# Altium footprint library IC.PcbLib: 83 footprints (part 2 of 6)
Each footprint in its own frame and in the unit in brackets; x right, y up, seen from the top. Pads: shape width x height; smd on the part's side, far side on the other; paste and mask are expansions set on the pad; w line width, h text height; cw(c..) or ccw(c..) is an arc to the next point about the centre after c.
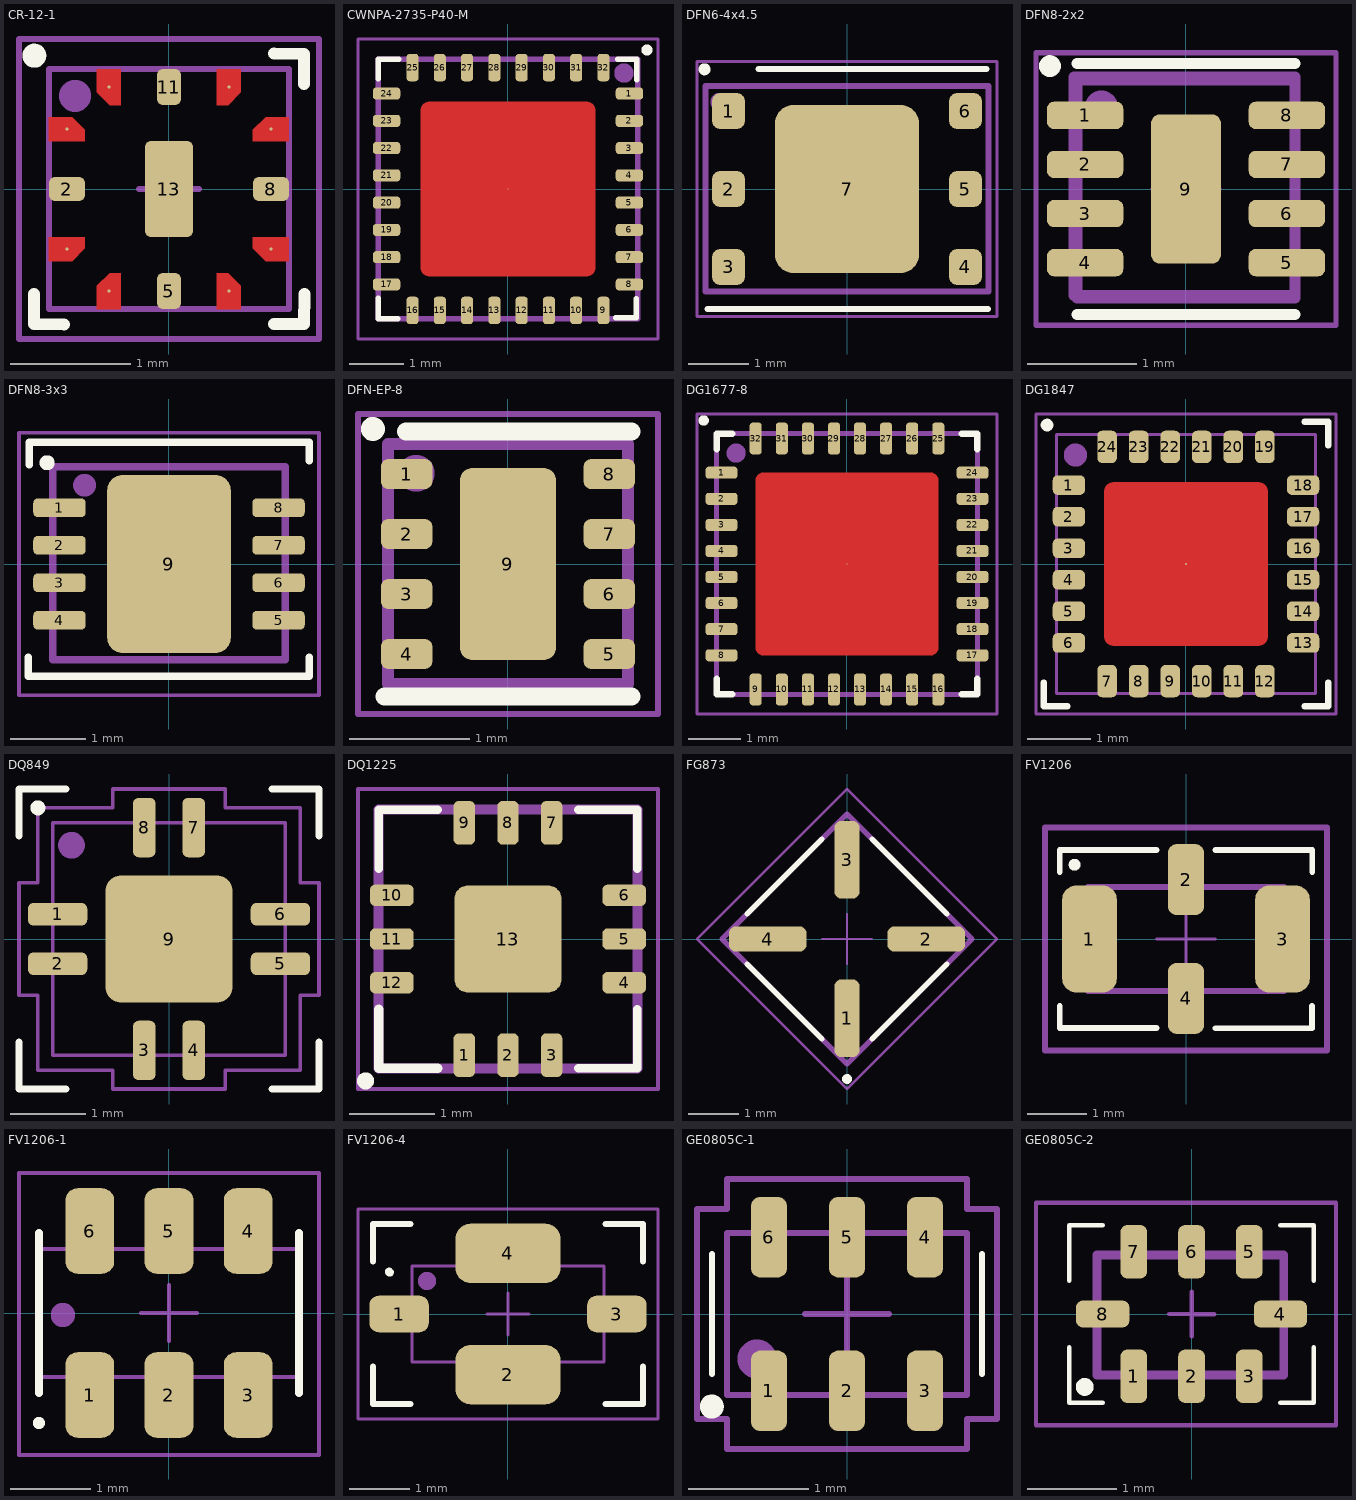
[diagram p1: the footprints below, top view; thin cyan lines are the x and y axes]

## CR-12-1 [mm]
pads (13):
  round 0.025 smd: 1(-0.85,0.5) 3(-0.85,-0.5) 4(-0.5,-0.85) 6(0.5,-0.85) 7(0.85,-0.5) 9(0.85,0.5) 10(0.5,0.85) 12(-0.5,0.85)
  rrect50% 0.3x0.2 smd: 2(-0.85,0) 8(0.85,0)
  rrect50% 0.2x0.3 smd: 5(0,-0.85) 11(0,0.85)
  rrect25% 0.4x0.8 smd: 13(0,0)
Top Layer:
  region: -0.492,0.7 -0.6,0.808 -0.6,1 -0.4,1 -0.4,0.7
  region: 0.7,0.492 0.808,0.6 1,0.6 1,0.4 0.7,0.4
  region: 0.7,-0.492 0.808,-0.6 1,-0.6 1,-0.4 0.7,-0.4
  region: 0.492,-0.7 0.6,-0.808 0.6,-1 0.4,-1 0.4,-0.7
  region: -0.492,-0.7 -0.6,-0.808 -0.6,-1 -0.4,-1 -0.4,-0.7
  region: -0.7,-0.492 -0.808,-0.6 -1,-0.6 -1,-0.4 -0.7,-0.4
  region: -0.7,0.492 -0.808,0.6 -1,0.6 -1,0.4 -0.7,0.4
  region: 0.492,0.7 0.6,0.808 0.6,1 0.4,1 0.4,0.7
Top Overlay:
  circle w0.1: c-1.123,1.111 r0.05
  lines w0.1: -1.125,-0.875 -1.125,-1.125 -0.874,-1.128 ; 0.874,1.128 1.125,1.125 1.125,0.875 ; 0.875,-1.125 1.125,-1.125 1.128,-0.874
Top Assembly:
  circle w0.254: c-0.782,0.777 r0.006
  lines w0.05: -1,-1 1,-1 1,1 -1,1 -1,-1
  text ".Designator" at -1.126,-0.113 h0.5
Top Courtyard:
  lines w0.05: -0.25,0 0,0 ; 0,-0.25 0,0 ; 0,0.25 0,0 ; 0.25,0 0,0 ; -1.25,-1.25 1.25,-1.25 1.25,1.25 -1.25,1.25 -1.25,-1.25
3D body "ADRF5238BCRZN.stp": height 0.62, standoff -0.01, extent -1,-1 1,1

## CWNPA-2735-P40-M [mm]
pads (33):
  rrect50% 0.5x0.22 smd: 1(2.225,1.75) 2(2.225,1.25) 3(2.225,0.75) 4(2.225,0.25) 5(2.225,-0.25) 6(2.225,-0.75) 7(2.225,-1.25) 8(2.225,-1.75) 17(-2.225,-1.75) 18(-2.225,-1.25) 19(-2.225,-0.75) 20(-2.225,-0.25) 21(-2.225,0.25) 22(-2.225,0.75) 23(-2.225,1.25) 24(-2.225,1.75)
  rrect50% 0.22x0.5 smd: 9(1.75,-2.225) 10(1.25,-2.225) 11(0.75,-2.225) 12(0.25,-2.225) 13(-0.25,-2.225) 14(-0.75,-2.225) 15(-1.25,-2.225) 16(-1.75,-2.225) 25(-1.75,2.225) 26(-1.25,2.225) 27(-0.75,2.225) 28(-0.25,2.225) 29(0.25,2.225) 30(0.75,2.225) 31(1.25,2.225) 32(1.75,2.225)
  round 0.025 smd: 33(0,0)
Top Layer:
  region: -1.6,-1.45 -1.6,1.45 -1.6,1.465 -1.594,1.494 -1.583,1.521 -1.567,1.546 -1.546,1.567 -1.521,1.583 -1.494,1.594 -1.465,1.6 -1.45,1.6 1.45,1.6 1.465,1.6 1.494,1.594 1.521,1.583 1.546,1.567 1.567,1.546 1.583,1.521 1.594,1.494 1.6,1.465 1.6,1.45 1.6,-1.45 1.6,-1.465 1.594,-1.494 1.583,-1.521 1.567,-1.546 1.546,-1.567 1.521,-1.583 1.494,-1.594 1.465,-1.6 1.45,-1.6 -1.45,-1.6 -1.465,-1.6 -1.494,-1.594 -1.521,-1.583 -1.546,-1.567 -1.567,-1.546 -1.583,-1.521 -1.594,-1.494 -1.6,-1.465
Top Overlay:
  circle w0.1: c2.548,2.548 r0.05
  lines w0.1: -2.375,-2 -2.375,-2.375 -2.025,-2.375 ; -2.375,2.025 -2.375,2.375 -2,2.375 ; 1.978,-2.358 2.353,-2.358 2.353,-2.008 ; 2.01,2.377 2.36,2.377 2.36,2.002
Top Assembly:
  circle w0.254: c2.125,2.125 r0.05
  lines w0.1: -2.375,-2.375 2.375,-2.375 2.375,2.375 -2.375,2.375 -2.375,-2.375
  text ".Designator" at -1.126,-0.113 h0.5
Top Courtyard:
  lines w0.05: -0.3,0 0,0 ; 0,-0.3 0,0 ; 0,0.3 0,0 ; 0.3,0 0,0 ; -2.75,-2.75 2.75,-2.75 2.75,2.75 -2.75,2.75 -2.75,-2.75
3D body: height 1, standoff 0, extent -2.375,-2.375 2.35,2.4

## DFN6-4x4.5 [mm]
pads (7):
  rrect50% 0.55x0.6 smd: 1(-1.975,1.3) 2(-1.975,0) 3(-1.975,-1.3) 4(1.975,-1.3) 5(1.975,0) 6(1.975,1.3)
  rrect25% 2.4x2.8 smd: 7(0,0)
Top Overlay:
  circle w0.1: c-2.374,1.995 r0.05
  lines w0.1: -2.325,-2 2.35,-2 ; -1.475,2 2.325,2
Top Assembly:
  circle w0.254: c-2.125,1.45 r0.025
  lines w0.1: -2.362,-1.712 2.362,-1.712 2.362,1.713 -2.362,1.713 -2.362,-1.712
  text ".Designator" at -1.126,-0.113 h0.5
Top Courtyard:
  lines w0.05: -0.3,0 0.3,0 ; 0,-0.3 0,0.3 ; -2.5,-2.125 2.5,-2.125 2.5,2.125 -2.5,2.125 -2.5,-2.125
3D body: height 1, standoff 0, extent -2.35,-1.7 2.35,1.7

## DFN8-2x2 [mm]
height 0.8
pads (9):
  rrect50% 0.7x0.25 smd: 1(-0.925,0.675) 2(-0.925,0.225) 3(-0.925,-0.225) 4(-0.925,-0.675) 5(0.925,-0.675) 6(0.925,-0.225) 7(0.925,0.225) 8(0.925,0.675)
  rrect25% 0.64x1.37 smd: 9(0,0)
Top Overlay:
  circle w0.1: c-1.247,1.126 r0.05
  lines w0.1: -1,-1.15 1,-1.15 ; -1,1.15 1,1.15
Top Assembly:
  circle w0.254: c-0.775,0.75 r0.025
  lines w0.1: -1.025,-0.975 1,-0.975 1,1.025 -1.025,1.025 -1.025,-0.975
  text ".Designator" at -1.126,-0.113 h0.5
Top 3D Body:
  lines w0.1: -1,-1 -1,1 1,1 1,-1 -1,-1
Top Courtyard:
  lines w0.05: -0.3,0 0.3,0 ; 0,-0.3 0,0.3 ; -1.375,-1.25 -1.375,1.25 1.375,1.25 1.375,-1.25 -1.375,-1.25
3D body: height 0.8, standoff 0, extent -1,-1 1,1

## DFN8-3x3 [mm]
pads (9):
  rrect50% 0.7x0.25 smd: 1(-1.46,0.75) 2(-1.46,0.25) 3(-1.46,-0.25) 4(-1.46,-0.75) 5(1.46,-0.75) 6(1.46,-0.25) 7(1.46,0.25) 8(1.46,0.75)
  rrect25% 1.65x2.38 smd: 9(0,0)
Top Overlay:
  circle w0.1: c-1.625,1.35 r0.05
  lines w0.1: -1.876,-1.245 -1.876,-1.5 1.872,-1.5 1.872,-1.245 ; -1.862,1.325 -1.862,1.625 1.873,1.625 1.873,1.375
Top Assembly:
  circle w0.254: c-1.125,1.05 r0.025
  lines w0.1: -1.55,-1.275 1.55,-1.275 1.55,1.3 -1.55,1.3 -1.55,-1.275
  text ".Designator" at -1.126,-0.113 h0.5
Top Courtyard:
  lines w0.05: -0.3,0 0,0 0,0.3 ; -0.013,-0.006 0.287,-0.006 ; -0.008,-0.311 -0.008,-0.011 ; -2,-1.75 2,-1.75 2,1.75 -2,1.75 -2,-1.75
3D body: height 1, standoff 0, extent -1.55,-1.275 1.575,1.3

## DFN-EP-8 [mm]
pads (9):
  rrect50% 0.43x0.25 smd: 1(-0.845,0.75) 2(-0.845,0.25) 3(-0.845,-0.25) 4(-0.845,-0.75) 5(0.845,-0.75) 6(0.845,-0.25) 7(0.845,0.25) 8(0.845,0.75)
  rrect25% 0.8x1.6 smd: 9(0,0)
Top Overlay:
  circle w0.1: c-1.126,1.126 r0.05
  lines w0.15: -1.03,-1.105 1.03,-1.105 ; -0.851,1.103 1.03,1.105
Top Solder:
  region: -0.3,-0.8 -0.316,-0.799 -0.331,-0.795 -0.345,-0.789 -0.359,-0.781 -0.371,-0.771 -0.381,-0.759 -0.389,-0.745 -0.395,-0.731 -0.399,-0.716 -0.4,0.6 -0.2,0.8 0.3,0.8 0.316,0.799 0.331,0.795 0.345,0.789 0.359,0.781 0.371,0.771 0.381,0.759 0.389,0.745 0.395,0.731 0.399,0.716 0.4,-0.7 0.399,-0.716 0.395,-0.731 0.389,-0.745 0.381,-0.759 0.371,-0.771 0.359,-0.781 0.345,-0.789 0.331,-0.795 0.316,-0.799 0.3,-0.8
Top Assembly:
  circle w0.254: c-0.765,0.756 r0.025
  lines w0.1: -1,-1 1,-1 1,1 -1,1 -1,-1
  text ".Designator" at -1.126,-0.113 h0.5
Top Courtyard:
  lines w0.05: -0.3,0 0.3,0 ; 0,-0.3 0,0.3 ; -1.25,-1.25 1.25,-1.25 1.25,1.25 -1.25,1.25 -1.25,-1.25
3D body "PSON9P50_200X200X95L30X25T160X80.STEP": height 0.95, standoff 0, extent -1.05,-1 1.05,1

## DG1677-8 [mm]
pads (33):
  rrect50% 0.61x0.23 smd: 1(-2.405,1.75) 2(-2.405,1.25) 3(-2.405,0.75) 4(-2.405,0.25) 5(-2.405,-0.25) 6(-2.405,-0.75) 7(-2.405,-1.25) 8(-2.405,-1.75) 17(2.405,-1.75) 18(2.405,-1.25) 19(2.405,-0.75) 20(2.405,-0.25) 21(2.405,0.25) 22(2.405,0.75) 23(2.405,1.25) 24(2.405,1.75)
  rrect50% 0.23x0.61 smd: 9(-1.75,-2.405) 10(-1.25,-2.405) 11(-0.75,-2.405) 12(-0.25,-2.405) 13(0.25,-2.405) 14(0.75,-2.405) 15(1.25,-2.405) 16(1.75,-2.405) 25(1.75,2.405) 26(1.25,2.405) 27(0.75,2.405) 28(0.25,2.405) 29(-0.25,2.405) 30(-0.75,2.405) 31(-1.25,2.405) 32(-1.75,2.405)
  round 0.025 smd: 33(0,0)
Top Layer:
  region: -1.75,-1.6 -1.75,1.6 -1.75,1.615 -1.744,1.644 -1.733,1.671 -1.717,1.696 -1.696,1.717 -1.671,1.733 -1.644,1.744 -1.615,1.75 -1.6,1.75 1.6,1.75 1.615,1.75 1.644,1.744 1.671,1.733 1.696,1.717 1.717,1.696 1.733,1.671 1.744,1.644 1.75,1.615 1.75,1.6 1.75,-1.6 1.75,-1.615 1.744,-1.644 1.733,-1.671 1.717,-1.696 1.696,-1.717 1.671,-1.733 1.644,-1.744 1.615,-1.75 1.6,-1.75 -1.6,-1.75 -1.615,-1.75 -1.644,-1.744 -1.671,-1.733 -1.696,-1.717 -1.717,-1.696 -1.733,-1.671 -1.744,-1.644 -1.75,-1.615
Top Overlay:
  lines w0.1: -2.697,2.751 cw(c-2.747,2.751) -2.697,2.754
  lines w0.127: -2.5,-2.2 -2.5,-2.5 -2.2,-2.5 ; -2.5,2.2 -2.5,2.5 -2.2,2.5 ; 2.2,-2.5 2.5,-2.5 2.5,-2.2 ; 2.2,2.5 2.5,2.5 2.5,2.2
Top Assembly:
  circle w0.254: c-2.125,2.125 r0.056
  lines w0.1: -2.5,-2.5 2.5,-2.5 2.5,2.5 -2.5,2.5 -2.5,-2.5
  text ".Designator" at -1.126,-0.113 h0.5
Top Courtyard:
  lines w0.05: -0.55,0 0,0 ; 0,-0.55 0,0 ; 0,0.55 0,0 ; 0.55,0 0,0 ; -2.875,-2.875 2.875,-2.875 2.875,2.875 -2.875,2.875 -2.875,-2.875
3D body "AVA-6183MPS+.stp": height 1.1, standoff 0, extent -2.55,-2.55 2.55,2.55

## DG1847 [mm]
pads (25):
  rrect50% 0.51x0.31 smd: 1(-1.855,1.25) 2(-1.855,0.75) 3(-1.855,0.25) 4(-1.855,-0.25) 5(-1.855,-0.75) 6(-1.855,-1.25) 13(1.855,-1.25) 14(1.855,-0.75) 15(1.855,-0.25) 16(1.855,0.25) 17(1.855,0.75) 18(1.855,1.25)
  rrect50% 0.31x0.51 smd: 7(-1.25,-1.855) 8(-0.75,-1.855) 9(-0.25,-1.855) 10(0.25,-1.855) 11(0.75,-1.855) 12(1.25,-1.855) 19(1.25,1.855) 20(0.75,1.855) 21(0.25,1.855) 22(-0.25,1.855) 23(-0.75,1.855) 24(-1.25,1.855)
  round 0.025 smd: 25(0,0)
Top Layer:
  region: -1.295,-1.145 -1.295,1.145 -1.295,1.16 -1.289,1.189 -1.278,1.216 -1.262,1.241 -1.241,1.262 -1.216,1.278 -1.189,1.289 -1.16,1.295 -1.145,1.295 1.145,1.295 1.16,1.295 1.189,1.289 1.216,1.278 1.241,1.262 1.262,1.241 1.278,1.216 1.289,1.189 1.295,1.16 1.295,1.145 1.295,-1.145 1.295,-1.16 1.289,-1.189 1.278,-1.216 1.262,-1.241 1.241,-1.262 1.216,-1.278 1.189,-1.289 1.16,-1.295 1.145,-1.295 -1.145,-1.295 -1.16,-1.295 -1.189,-1.289 -1.216,-1.278 -1.241,-1.262 -1.262,-1.241 -1.278,-1.216 -1.289,-1.189 -1.295,-1.16
Top Overlay:
  circle w0.1: c-2.2,2.2 r0.05
  lines w0.1: -2.25,-1.875 -2.25,-2.25 -1.875,-2.25 ; 1.875,-2.25 2.25,-2.25 2.25,-1.875 ; 1.875,2.25 2.25,2.25 2.25,1.875
Top Assembly:
  circle w0.254: c-1.75,1.725 r0.056
  lines w0.05: -2.05,-2.05 2.05,-2.05 2.05,2.05 -2.05,2.05 -2.05,-2.05
  text ".Designator" at -2.704,-0.271 h1.2
Top Courtyard:
  lines w0.05: -0.5,0 0,0 ; 0,-0.5 0,0 ; 0,0.5 0,0 ; 0.5,0 0,0 ; -2.375,-2.375 2.375,-2.375 2.375,2.375 -2.375,2.375 -2.375,-2.375
3D body "EP2K+.stp": height 1, standoff 0, extent -2.05,-2.05 2.05,2.05

## DQ849 [mm]
pads (9):
  rrect50% 0.79x0.3 smd: 1(-1.485,0.33) 2(-1.485,-0.33) 5(1.485,-0.33) 6(1.485,0.33)
  rrect50% 0.3x0.79 smd: 3(-0.33,-1.485) 4(0.33,-1.485) 7(0.33,1.485) 8(-0.33,1.485)
  rrect25% 1.7x1.7 smd: 9(0,0)
Top Overlay:
  circle w0.1: c-1.749,1.749 r0.05
  lines w0.1: -2,-1.375 -2,-2 -1.375,-2 ; -2,1.375 -2,2 -1.375,2 ; 1.375,-2 2,-2 2,-1.375 ; 1.375,2 2,2 2,1.375
Top Assembly:
  circle w0.254: c-1.3,1.25 r0.05
  lines w0.05: -1.55,-1.55 1.55,-1.55 1.55,1.55 -1.55,1.55 -1.55,-1.55
  text ".Designator" at -2.704,-0.271 h1.2
Top Courtyard:
  lines w0.05: -0.5,0 0,0 ; 0,-0.5 0,0 ; 0,0.5 0,0 ; 0.5,0 0,0 ; -2,-0.75 -2,0.75 -1.75,0.75 -1.75,1.75 -0.75,1.75 -0.75,2 0.75,2 0.75,1.75 1.75,1.75 1.75,0.75 2,0.75 2,-0.75 1.75,-0.75 1.75,-1.75 0.75,-1.75 0.75,-2 -0.75,-2 -0.75,-1.75 -1.75,-1.75 -1.75,-0.75 -2,-0.75
3D body "AVA-183A+.stp": height 0.89, standoff 0, extent -1.55,-1.55 1.55,1.55

## DQ1225 [mm]
pads (13):
  rrect50% 0.25x0.51 smd: 1(-0.51,-1.355) 2(0,-1.355) 3(0.51,-1.355) 7(0.51,1.355) 8(0,1.355) 9(-0.51,1.355)
  rrect50% 0.51x0.25 smd: 4(1.355,-0.51) 5(1.355,0) 6(1.355,0.51) 10(-1.355,0.51) 11(-1.355,0) 12(-1.355,-0.51)
  rrect25% 1.25x1.25 smd: 13(0,0)
Top Overlay:
  circle w0.1: c-1.661,-1.655 r0.05
  lines w0.1: -1.51,0.82 -1.51,1.51 -0.82,1.51 ; 0.82,-1.51 1.51,-1.51 1.51,-0.82 ; 0.82,1.51 1.51,1.51 1.51,0.82
  lines w0.11: -1.51,-0.82 -1.51,-1.51 -0.82,-1.51
Top Assembly:
  lines w0.12: -1.51,-1.51 1.51,-1.51 1.51,1.51 -1.51,1.51 -1.51,-1.51
  text ".Designator" at -2.704,-0.271 h1.2
Top Courtyard:
  lines w0.05: -0.5,0 0,0 ; 0,-0.5 0,0 ; 0,0.5 0,0 ; 0.5,0 0,0 ; -1.75,-1.75 1.75,-1.75 1.75,1.75 -1.75,1.75 -1.75,-1.75
3D body "QFN13P51_300X300X89L41X23T125.STEP": height 0.89, standoff 0, extent -1.55,-1.55 1.55,1.55

## FG873 [mm]
pads (4):
  rrect50% 0.5x1.55 smd: 1(0,-1.585) 3(0,1.585)
  rrect50% 1.55x0.5 smd: 2(1.585,0) 4(-1.585,0)
Top Overlay:
  circle w0.1: c0,-2.8 r0.05
  lines w0.1: -2,-0.5 -0.5,-2 ; -2,0.5 -0.5,2 ; 0.5,-2 2,-0.5 ; 0.5,2 2,0.5
Top Assembly:
  circle w0.254: c-0.025,-1.8 r0.025
  lines w0.1: -2.5,0 0,-2.5 2.5,0 0,2.5 -2.5,0
  text ".Designator" at -1.126,-0.113 h0.5
Top Courtyard:
  lines w0.05: -0.5,0 0,0 ; 0,-0.5 0,0 ; 0,0.5 0,0 ; 0.5,0 0,0 ; -3,0 0,-3 3,0 0,3 -3,0
3D body "LHA-1+.stp": height 0.89, standoff 0, extent -2.121,-2.121 2.121,2.121

## FV1206 [mm]
pads (4):
  rrect50% 0.92x1.8 smd: 1(-1.625,0) 3(1.625,0)
  rrect50% 0.61x1.2 smd: 2(0,1) 4(0,-1)
Top Overlay:
  circle w0.1: c-1.875,1.25 r0.05
  lines w0.1: -2.125,-1.125 -2.125,-1.5 -0.5,-1.5 ; -2.125,1.125 -2.125,1.5 -0.5,1.5 ; 0.499,-1.503 2.124,-1.503 2.124,-1.128 ; 0.5,1.5 2.125,1.5 2.125,1.125
Top Assembly:
  circle w0.254: c-1.375,0.625 r0.025
  lines w0.1: -1.65,-0.875 1.65,-0.875 1.65,0.875 -1.65,0.875 -1.65,-0.875
  text ".Designator" at -1.126,-0.113 h0.5
Top Courtyard:
  lines w0.05: -0.5,0 0,0 ; 0,-0.5 0,0 ; 0,0.5 0,0 ; 0.5,0 0,0
  lines w0.1: -2.375,-1.875 2.375,-1.875 2.375,1.875 -2.375,1.875 -2.375,-1.875
3D body "LFCN-6000---3DModel-STEP-56544.STEP": height 0.94, standoff 0, extent -1.6,-0.8 1.6,0.8

## FV1206-1 [mm]
pads (6):
  rrect50% 0.61x1.07 smd: 1(-0.99,-1.025) 2(0,-1.025) 3(0.99,-1.025) 4(0.99,1.025) 5(0,1.025) 6(-0.99,1.025)
Top Overlay:
  circle w0.1: c-1.625,-1.375 r0.025
  lines w0.1: -1.625,-1 -1.625,1 ; 1.625,-1 1.625,1
Top Assembly:
  circle w0.254: c-1.325,-0.025 r0.025
  lines w0.05: -1.6,-0.8 1.6,-0.8 1.6,0.8 -1.6,0.8 -1.6,-0.8
  text ".Designator" at -1.126,-0.113 h0.5
Top Courtyard:
  lines w0.05: -0.35,0 0.35,0 ; 0,-0.35 0,0.35 ; -1.875,-1.775 1.875,-1.775 1.875,1.75 -1.875,1.75 -1.875,-1.775
3D body "HFCN-672+.stp": height 0.89, standoff 0, extent -1.6,-0.8 1.6,0.8

## FV1206-4 [mm]
pads (4):
  rrect50% 0.99x0.61 smd: 1(-1.815,0) 3(1.815,0)
  rrect50% 1.75x0.99 smd: 2(0,-1.01) 4(0,1.01)
Top Overlay:
  lines w0.1: -2.25,-0.875 -2.25,-1.5 -1.625,-1.5 ; -2.25,0.875 -2.25,1.5 -1.625,1.5 ; -1.975,0.725 ccw(c-1.975,0.7) -1.95,0.7 ; 1.625,-1.5 2.25,-1.5 2.25,-0.875 ; 1.625,1.5 2.25,1.5 2.25,0.875
Top Assembly:
  circle w0.254: c-1.35,0.55 r0.025
  lines w0.05: -1.6,-0.8 1.6,-0.8 1.6,0.8 -1.6,0.8 -1.6,-0.8
  text ".Designator" at -1.126,-0.113 h0.5
Top Courtyard:
  lines w0.05: -0.35,0 0.35,0 ; 0,-0.35 0,0.35 ; -2.5,-1.75 2.5,-1.75 2.5,1.75 -2.5,1.75 -2.5,-1.75
3D body "BFCN-3700+.stp": height 0.48, standoff -0.48, extent -1.61,-0.814 1.61,0.814

## GE0805C-1 [mm]
pads (6):
  rrect50% 0.3x0.67 smd: 1(-0.65,-0.64) 2(0,-0.64) 3(0.65,-0.64) 4(0.65,0.64) 5(0,0.64) 6(-0.65,0.64)
Top Overlay:
  circle w0.1: c-1.127,-0.771 r0.05
  lines w0.05: -1.125,-0.5 -1.125,0.5 ; 1.125,-0.5 1.125,0.5
Top Assembly:
  circle w0.254: c-0.75,-0.375 r0.035
  lines w0.05: -1,-0.675 1,-0.675 1,0.675 -1,0.675 -1,-0.675
  text ".Designator" at -1.126,-0.113 h0.5
Top Courtyard:
  lines w0.05: -0.35,0 0.35,0 ; 0,-0.35 0,0.35 ; -1.25,-0.875 -1.25,0 -1.25,0.875 -1,0.875 -1,1.125 0,1.125 1,1.125 1,0.875 1.25,0.875 1.25,0 1.25,-0.875 1,-0.875 1,-1.125 0,-1.125 -1,-1.125 -1,-0.875 -1.25,-0.875
3D body "RESCAV6P65_200X125X85L30X30.STEP": height 0.85, standoff 0, extent -1,-0.675 1,0.675

## GE0805C-2 [mm]
pads (8):
  rrect50% 0.3x0.6 smd: 1(-0.65,-0.7) 2(0,-0.7) 3(0.65,-0.7) 5(0.65,0.7) 6(0,0.7) 7(-0.65,0.7)
  rrect50% 0.6x0.3 smd: 4(1,0) 8(-1,0)
Top Overlay:
  circle w0.1: c-1.202,-0.82 r0.05
  lines w0.05: -1.375,-0.375 -1.375,-1 -1,-1 ; -1.375,0.375 -1.375,1 -1,1 ; 1,-1 1.375,-1 1.375,-0.375 ; 1,1 1.375,1 1.375,0.375
Top Assembly:
  lines w0.1: -1.063,-0.688 1.037,-0.688 1.037,0.662 -1.063,0.662 -1.063,-0.688
  text ".Designator" at -1.126,-0.113 h0.5
Top Courtyard:
  lines w0.05: -0.25,0 0,0 ; 0,-0.25 0,0 ; 0,0.25 0,0 ; 0.003,-0.002 0.253,-0.002 ; -1.75,-1.25 1.625,-1.25 1.625,1.25 -1.75,1.25 -1.75,-1.25
3D body "User Library-GE0805C-2.STEP": height 0.94, standoff -0.01, extent -1.015,-0.64 1.015,0.64